# EAGLE library part W5500 (library Deegou-Interface-ICs)
Hardwired TCP/IP embedded Ethernet controller
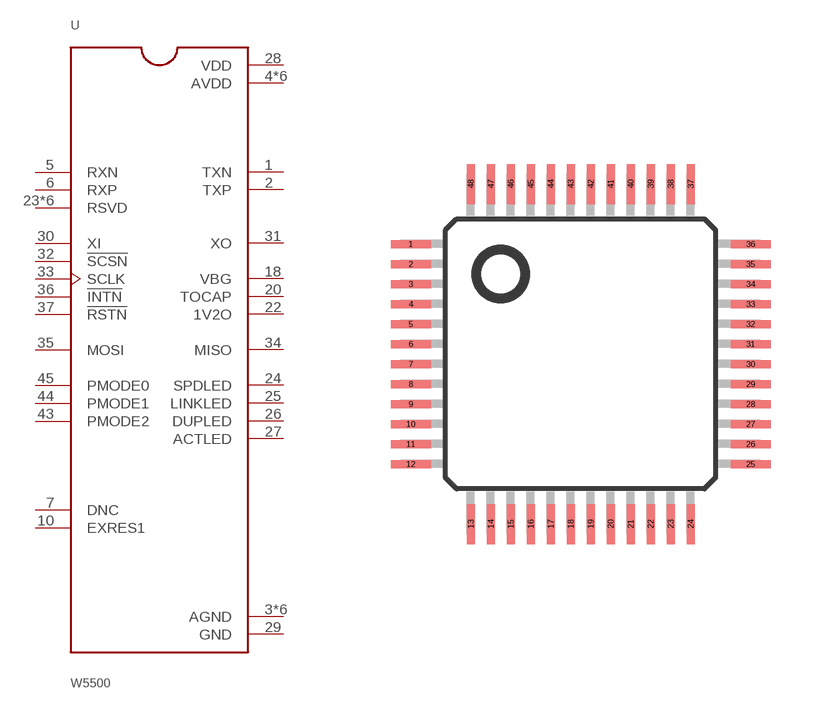
[diagram p8: symbol with the pads of QFP50P700X700X160-48N; footprint QFP50P700X700X160-48N]

Designator prefix U

## W5500 (MFR: WIZnet; MPN: W5500; VALUE: W5500)  [QFP50P700X700X160-48N]
1  TXN  out
2  TXP  out
3  AGND  pas
4  AVDD  pwr
5  RXN  in
6  RXP  in
7  DNC
8  AVDD  pwr
9  AGND  pas
10  EXRES1
11  AVDD  pwr
14  AGND  pas
15  AVDD  pwr
16  AGND  pas
17  AVDD  pwr
18  VBG  out
19  AGND  pas
20  TOCAP  out
21  AVDD  pwr
22  1V2O  out
23  RSVD  in
24  SPDLED  out
25  LINKLED  out
26  DUPLED  out
27  ACTLED  out
28  VDD  pwr
29  GND  pas
30  XI  in
31  XO  out
32  !SCSN  in
33  SCLK  in
34  MISO  out
35  MOSI  in
36  !INTN  in
37  !RSTN  in
38  RSVD  in
39  RSVD  in
40  RSVD  in
41  RSVD  in
42  RSVD  in
43  PMODE2  in
44  PMODE1  in
45  PMODE0  in
48  AGND  pas

## Footprint QFP50P700X700X160-48N (pad centres in mm)
smd 1 x 0.2: 1 -4.25,2.75; 2 -4.25,2.25; 3 -4.25,1.75; 4 -4.25,1.25; 5 -4.25,0.75; 6 -4.25,0.25; 7 -4.25,-0.25; 8 -4.25,-0.75; 9 -4.25,-1.25; 10 -4.25,-1.75; 11 -4.25,-2.25; 12 -4.25,-2.75; 25 4.25,-2.75; 26 4.25,-2.25; 27 4.25,-1.75; 28 4.25,-1.25; 29 4.25,-0.75; 30 4.25,-0.25; 31 4.25,0.25; 32 4.25,0.75; 33 4.25,1.25; 34 4.25,1.75; 35 4.25,2.25; 36 4.25,2.75
smd 0.2 x 1: 13 -2.75,-4.25; 14 -2.25,-4.25; 15 -1.75,-4.25; 16 -1.25,-4.25; 17 -0.75,-4.25; 18 -0.25,-4.25; 19 0.25,-4.25; 20 0.75,-4.25; 21 1.25,-4.25; 22 1.75,-4.25; 23 2.25,-4.25; 24 2.75,-4.25; 37 2.75,4.25; 38 2.25,4.25; 39 1.75,4.25; 40 1.25,4.25; 41 0.75,4.25; 42 0.25,4.25; 43 -0.25,4.25; 44 -0.75,4.25; 45 -1.25,4.25; 46 -1.75,4.25; 47 -2.25,4.25; 48 -2.75,4.25